# Altium footprint library SamacSys.PcbLib: 20 footprints (part 2 of 2)
Each footprint in its own frame and in the unit in brackets; x right, y up, seen from the top. Pads: shape width x height; smd on the part's side, far side on the other; paste and mask are expansions set on the pad; w line width, h text height; cw(c..) or ccw(c..) is an arc to the next point about the centre after c.
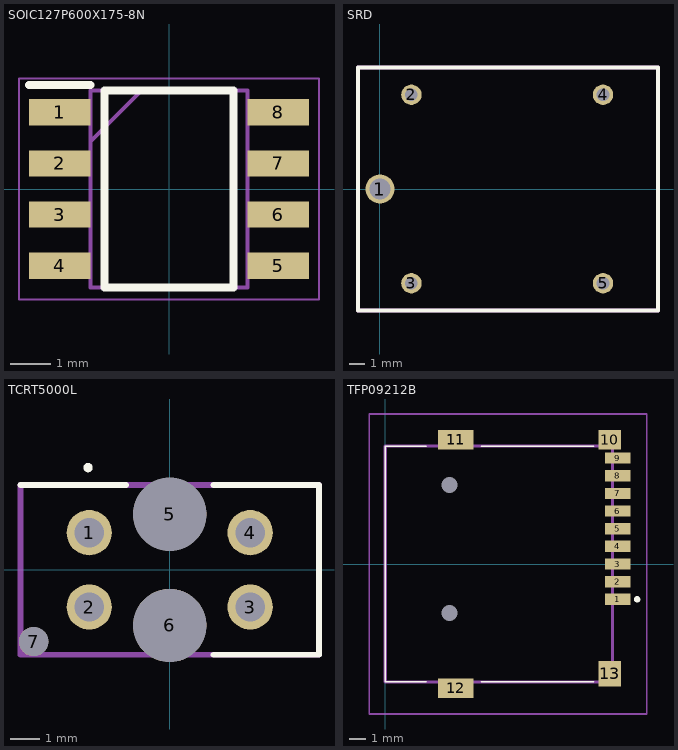
[diagram p1: the footprints below, top view; thin cyan lines are the x and y axes]

## SOIC127P600X175-8N [mm]
pads (8):
  rect 1.525x0.65 smd: 1(-2.712,1.905) 2(-2.712,0.635) 3(-2.712,-0.635) 4(-2.712,-1.905) 5(2.712,-1.905) 6(2.712,-0.635) 7(2.712,0.635) 8(2.712,1.905)
Top Overlay:
  lines w0.2: -3.475,2.58 -1.95,2.58 ; -1.6,-2.45 1.6,-2.45 1.6,2.45 -1.6,2.45 -1.6,-2.45
Mechanical 13:
  lines w0.1: -1.95,1.18 -0.68,2.45 ; -1.95,-2.45 1.95,-2.45 1.95,2.45 -1.95,2.45 -1.95,-2.45
Mechanical 15:
  lines w0.05: -3.725,-2.75 3.725,-2.75 3.725,2.75 -3.725,2.75 -3.725,-2.75
3D body "NE555DR.stp": height 1.75, standoff 0, extent -3,-2.45 3,2.45

## SRD [mm]
pads (5):
  round 1.84 hole 1.34: 1(0,0)
  round 1.3 hole 0.8: 2(2,6) 3(2,-6) 4(14.2,6) 5(14.2,-6)
Top Overlay:
  lines w0.254: -1.4,-7.75 -1.4,7.75 17.7,7.75 17.7,-7.75 -1.4,-7.75
Mechanical 13:
  lines w0.254: -1.4,-7.75 -1.4,7.75 17.7,7.75 17.7,-7.75 -1.4,-7.75
3D body "SRD-05VDC-SL-C.stp": height 15.04, standoff -4.46, extent -1.35,-7.5 17.65,7.5

## TCRT5000L [mm]
pads (7):
  round 1.55 hole 1: 1(-2.75,1.27) 2(-2.75,-1.27) 3(2.75,-1.27) 4(2.75,1.27)
  round 2.5 hole 2.5 unplated: 5(0,1.9) 6(0,-1.9)
  round 1 hole 1 unplated: 7(-4.65,-2.45)
Top Overlay:
  circle w0.2: c-2.79,3.492 r0.058
  lines w0.2: -5.1,2.9 -1.5,2.9 ; 1.5,-2.9 5.1,-2.9 5.1,2.9 1.5,2.9
Mechanical 13:
  lines w0.2: -5.1,-2.9 -5.1,2.9 5.1,2.9 5.1,-2.9 -5.1,-2.9
3D body "TCRT5000L.stp": height 7.05, standoff -15.45, extent -5.103,-3.467 5.097,3.333

## TFP09212B [mm]
pads (15):
  rect 1.6x0.7 smd: 1(14.5,-2.2) 2(14.5,-1.1) 3(14.5,0) 4(14.5,1.1) 5(14.5,2.2) 6(14.5,3.3) 7(14.5,4.4) 8(14.5,5.5) 9(14.5,6.6)
  rect 1.4x1.2 smd: 10(14,7.75)
  rect 2.2x1.2 smd: 11(4.4,7.75) 12(4.4,-7.75)
  rect 1.4x1.6 smd: 13(14,-6.85)
  round 0.5 hole 1 unplated: MH1(4,-3.05) MH2(4,4.93)
Top Overlay:
  lines w0.1: 2.54,-7.35 0,-7.35 0,7.35 2.54,7.35 ; 6,-7.35 13,-7.35 ; 6,7.35 13,7.35
  lines w0.2: 15.7,-2.3 ccw(c15.7,-2.2) 15.7,-2.1 ccw(c15.7,-2.2) 15.7,-2.3
Mechanical 13:
  lines w0.2: 0,-7.35 0,7.35 14.16,7.35 14.16,-7.35 0,-7.35
Mechanical 15:
  lines w0.1: -1,-9.35 -1,9.35 16.3,9.35 16.3,-9.35 -1,-9.35
3D body "TFP09-2-12B.stp": height 1.85, standoff -0.6, extent 0,-8 15.203,8.1